# Altium footprint library SOT95P237X112-3N.PcbLib: 1 footprints
Each footprint in its own frame and in the unit in brackets; x right, y up, seen from the top. Pads: shape width x height; smd on the part's side, far side on the other; paste and mask are expansions set on the pad; w line width, h text height; cw(c..) or ccw(c..) is an arc to the next point about the centre after c.
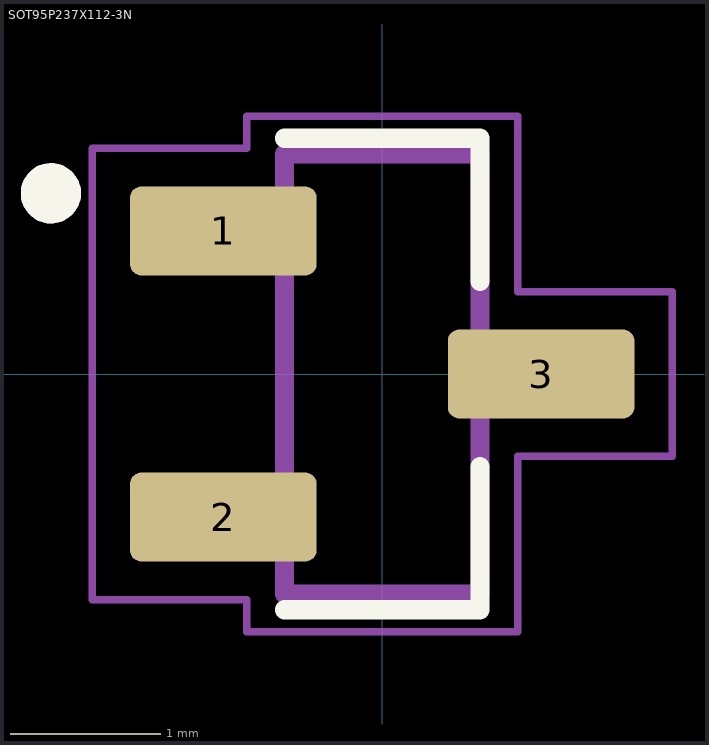
[diagram p0: the footprint, top view; thin cyan lines are the x and y axes]

## SOT95P237X112-3N [mm]
pads (3):
  rrect25% 1.24x0.59 smd: 1(-1.055,0.95) 2(-1.055,-0.95) 3(1.055,0)
Top Overlay:
  circle w0.2: c-2.2,1.2 r0.1
  lines w0.127: -0.65,-1.565 0.65,-1.565 0.65,-0.615 ; -0.65,1.565 0.65,1.565 0.65,0.615
Mechanical 13:
  circle w0.2: c-2.2,1.2 r0.1
  lines w0.127: -0.65,-1.46 -0.65,1.46 0.65,1.46 0.65,-1.46 -0.65,-1.46
Mechanical 15:
  lines w0.05: -1.925,-1.5 -1.925,1.5 -0.9,1.5 -0.9,1.71 0.9,1.71 0.9,0.545 1.925,0.545 1.925,-0.545 0.9,-0.545 0.9,-1.71 -0.9,-1.71 -0.9,-1.5 -1.925,-1.5